# EAGLE library part OLED_0.96 (library sneakypoo)
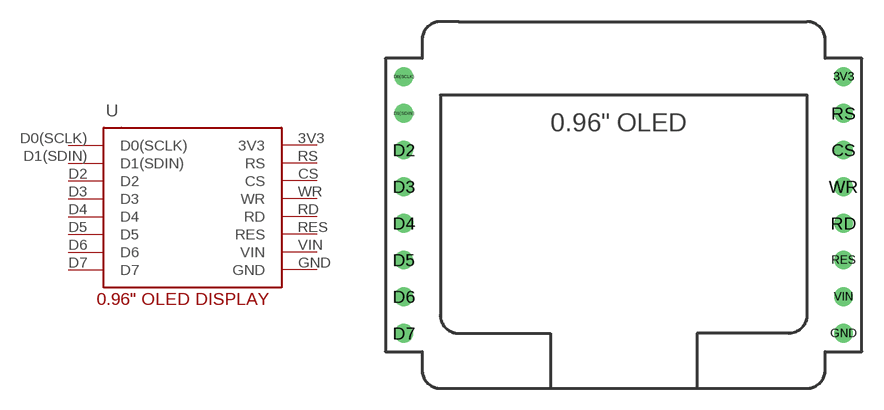
[diagram p1: symbol with the pads of OLED_0.96; footprint OLED_0.96]

Designator prefix -

## OLED_0.96  [OLED_0.96]
3V3  3V3
CS  CS
D0(SCLK)  D0(SCLK)
D1(SDIN)  D1(SDIN)
D2  D2
D3  D3
D4  D4
D5  D5
D6  D6
D7  D7
GND  GND
RD  RD
RES  RES
RS  RS
VIN  VIN
WR  WR

## Footprint OLED_0.96 (pad centres in mm)
drill 0.8 round: 3V3 15.24,8.89; CS 15.24,3.81; D0(SCLK) -15.24,8.89; D1(SDIN) -15.24,6.35; D2 -15.24,3.81; D3 -15.24,1.27; D4 -15.24,-1.27; D5 -15.24,-3.81; D6 -15.24,-6.35; D7 -15.24,-8.89; GND 15.24,-8.89; RD 15.24,-1.27; RES 15.24,-3.81; RS 15.24,6.35; VIN 15.24,-6.35; WR 15.24,1.27